# EAGLE library part MAX9939 (library max9939)
MAX9939: SPI Programmable-Gain Amplifier with Input VOS Trim and Output Op Amp The MAX9939 is a general-purpose, differential-input programmable-gain amplifier (PGA) that is ideal for conditioning a variety of wide dynamic range signals such as those found in motor current-sense, medical instrumentation, and sonar data acquisition applications. It features programmable differential gains from 0.2V/V to 157V/V, input offset-voltage compensation, and an output amplifier that can be configured either as a highorder active filter or to provide a differential output. The PGA is optimized for high-signal bandwidth and its gain can be programmed to be 0.2V/V, 1V/V, 10V/V, 20V/V, 30V/V, 40V/V, 60V/V, 80V/V, 119V/V, and 157V/V.
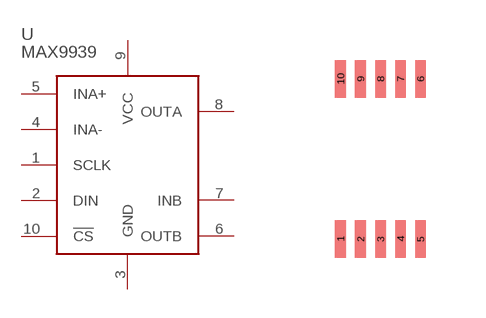
[diagram p0: symbol with the pads of 10µMAX; footprint 10µMAX]

Designator prefix U

## MAX9939  [10µMAX]
1  SCLK
2  DIN
3  GND
4  INA-
5  INA+
6  OUTB
7  INB
8  OUTA
9  VCC
10  !CS

## Footprint 10µMAX (pad centres in mm)
smd 0.27 x 0.94: 1 -1,-2; 2 -0.5,-2; 3 0,-2; 4 0.5,-2; 5 1,-2; 6 1,2; 7 0.5,2; 8 0,2; 9 -0.5,2; 10 -1,2